# Altium footprint library DT1308PA.PcbLib: 1 footprints
Each footprint in its own frame and in the unit in brackets; x right, y up, seen from the top. Pads: shape width x height; smd on the part's side, far side on the other; paste and mask are expansions set on the pad; w line width, h text height; cw(c..) or ccw(c..) is an arc to the next point about the centre after c.
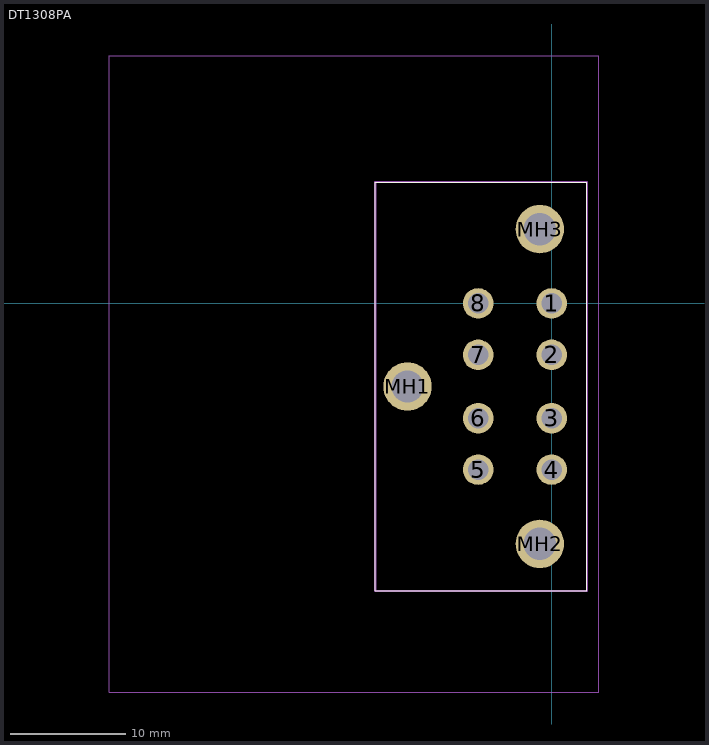
[diagram p0: the footprint, top view; thin cyan lines are the x and y axes]

## DT1308PA [mm]
pads (11):
  round 2.64 hole 1.76: 1(0,0) 2(0,-4.445) 3(0,-9.905) 4(0,-14.35) 5(-6.35,-14.35) 6(-6.35,-9.905) 7(-6.35,-4.445) 8(-6.35,0)
  round 4.185 hole 2.79: MH1(-12.45,-7.175) MH2(-1.02,-20.765) MH3(-1.02,6.415)
Top Overlay:
  lines w0.1: -15.24,-24.83 -15.24,10.48 3.05,10.48 3.05,-24.83 -15.24,-24.83
Mechanical 15:
  lines w0.2: -15.24,-24.83 -15.24,10.48 3.05,10.48 3.05,-24.83 -15.24,-24.83
Mechanical 20:
  lines w0.1: -38.19,-33.575 -38.19,21.385 4.05,21.385 4.05,-33.575 -38.19,-33.575
3D body "DT13-08PA.stp": height 5.8, standoff -4.65, extent -10,-3.376 10,3.376